# Altium integrated library Linear Technology Power Management Power Control.IntLib: 661 symbols (part 40 of 43)
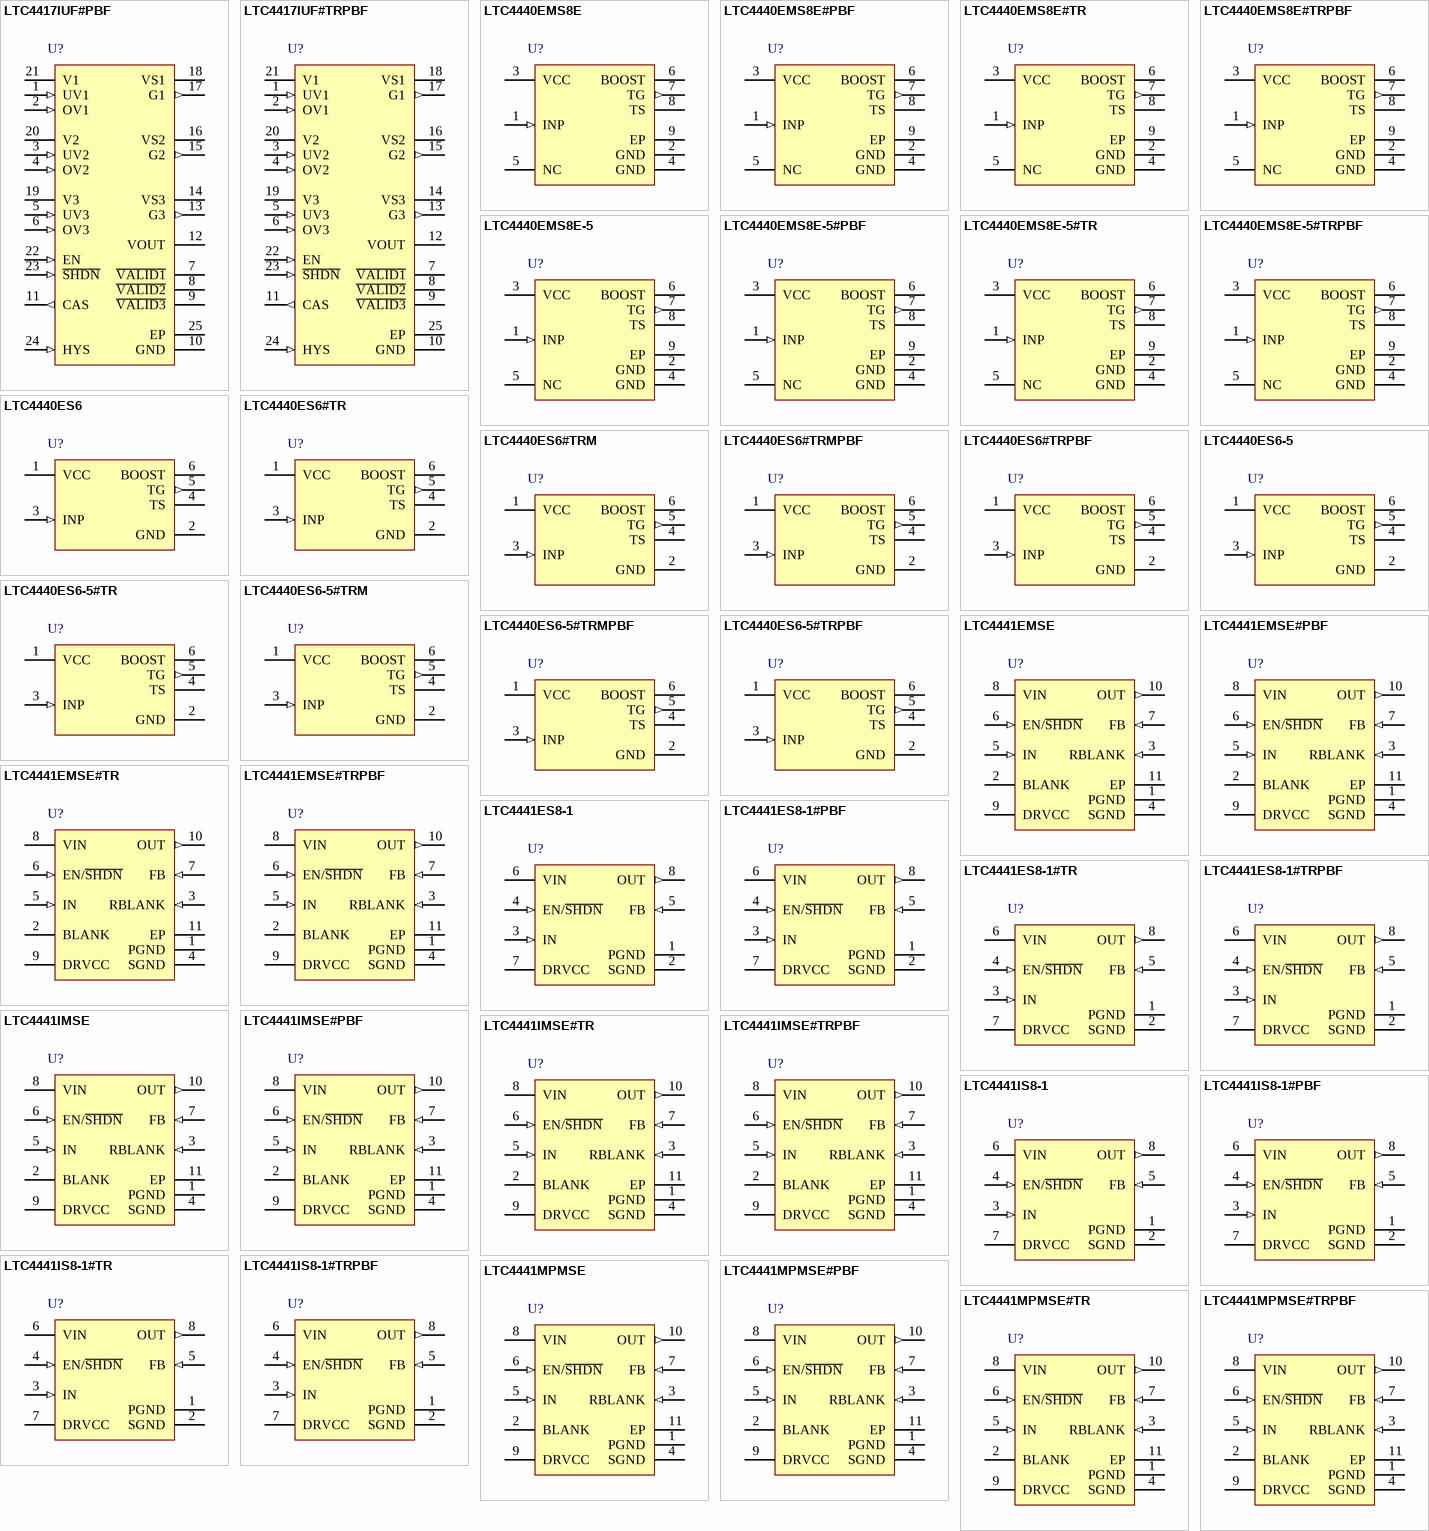
[diagram p58: symbols LTC4417IUF#PBF to LTC4441MPMSE#TRPBF]

## LTC4440EMS8E-5#TR
designator U?
Optimized for Logic Level FETs, 1.85 Ohm Pull-Down, 1.1 A Pull-Up Driver, 80 V Vin MAX, 8-pin SOP (MS8E-8), -40 to 85 degC, Tape and Reel; Manufacturer: Linear Technology; PartNumber: LTC4440EMS8E-5#TR; DatasheetVersion: Rev. A; PackageVersion: Rev. E; PackageReference: MS8E-8; PackageDescription: 8-Pin Plastic MSOP, Exposed Die Pad, Body 3 x 3 mm, Pitch 0.65 mm; Packing: Tape and Reel; RoHS: FALSE; Mounting Technology: Surface Mount; ComponentLink1Description: Manufacturer URL; ComponentLink1URL: http://www.linear.com/; ComponentLink2Description: Datasheet; ComponentLink2URL: http://cds.linear.com/docs/en/datasheet/44405fa.pdf; ComponentLink3Description: Package Specification; ComponentLink3URL: http://cds.linear.com/docs/en/datasheet/4070fc.pdf
footprint LT-MS8E-8-2060X1830TP_N (SOP, 8-Leads, Body 3.1x3.1mm, Pitch 0.65mm, Thermal Pad 2.162x1.932mm, IPC Medium Density)
footprint LT-MS8E-8-2060X1830TP_L (SOP, 8-Leads, Body 3.1x3.1mm, Pitch 0.65mm, Thermal Pad 2.162x1.932mm, IPC High Density)
footprint LT-MS8E-8-2060X1830TP_M (SOP, 8-Leads, Body 3.1x3.1mm, Pitch 0.65mm, Thermal Pad 2.162x1.932mm, IPC Low Density)
pins: 1 INP (in) "Input Signal. TTL/CMOS compatible input referenced to GND (Pin 2).", 2 GND (power) "Chip Ground.", 3 VCC (power) "Chip Supply. This pin powers the internal low side circuitry. A low ESR ceramic bypass capacitor should be tied between this pin and the GND pin (Pin 2).", 4 GND (power) "Chip Ground.", 5 NC "No Connect. No connection required. For convenience, this pin may be tied to Pin 6 (BOOST) on the application board.", 6 BOOST "High Side Bootstrapped Supply. An external capacitor should be tied between this pin and TS (Pin 8). Normally, a bootstrap diode is connected between VCC (Pin 3) and this pin. Voltage swing at this pin is from VCC - VD to (See Datasheet)", 7 TG (out) "High Current Gate Driver Output (Top Gate). This pin swings between TS and BOOST.", 8 TS, 9 EP (power) "Ground. Must be electrically connected to Pins 2 and 4 and soldered to PCB ground for optimum thermal performance."

## LTC4440EMS8E-5#TRPBF
designator U?
Optimized for Logic Level FETs, 1.85 Ohm Pull-Down, 1.1 A Pull-Up Driver, 80 V Vin MAX, 8-pin SOP (MS8E-8), -40 to 85 degC, Pb-Free, Tape and Reel; Manufacturer: Linear Technology; PartNumber: LTC4440EMS8E-5#TRPBF; DatasheetVersion: Rev. A; PackageVersion: Rev. E; PackageReference: MS8E-8; PackageDescription: 8-Pin Plastic MSOP, Exposed Die Pad, Body 3 x 3 mm, Pitch 0.65 mm; Supplier 1: Digi-Key; Supplier Part Number 1: LTC4440EMS8E-5#TRPBF-ND; Supplier 2: Newark; Supplier Part Number 2: 56M9552; Packing: Tape and Reel; RoHS: TRUE; Mounting Technology: Surface Mount; ComponentLink1Description: Manufacturer URL; ComponentLink1URL: http://www.linear.com/; ComponentLink2Description: Datasheet; ComponentLink2URL: http://cds.linear.com/docs/en/datasheet/44405fa.pdf; ComponentLink3Description: Package Specification; ComponentLink3URL: http://cds.linear.com/docs/en/datasheet/4070fc.pdf
footprint LT-MS8E-8-2060X1830TP_N (SOP, 8-Leads, Body 3.1x3.1mm, Pitch 0.65mm, Thermal Pad 2.162x1.932mm, IPC Medium Density)
footprint LT-MS8E-8-2060X1830TP_L (SOP, 8-Leads, Body 3.1x3.1mm, Pitch 0.65mm, Thermal Pad 2.162x1.932mm, IPC High Density)
footprint LT-MS8E-8-2060X1830TP_M (SOP, 8-Leads, Body 3.1x3.1mm, Pitch 0.65mm, Thermal Pad 2.162x1.932mm, IPC Low Density)
pins: 1 INP (in) "Input Signal. TTL/CMOS compatible input referenced to GND (Pin 2).", 2 GND (power) "Chip Ground.", 3 VCC (power) "Chip Supply. This pin powers the internal low side circuitry. A low ESR ceramic bypass capacitor should be tied between this pin and the GND pin (Pin 2).", 4 GND (power) "Chip Ground.", 5 NC "No Connect. No connection required. For convenience, this pin may be tied to Pin 6 (BOOST) on the application board.", 6 BOOST "High Side Bootstrapped Supply. An external capacitor should be tied between this pin and TS (Pin 8). Normally, a bootstrap diode is connected between VCC (Pin 3) and this pin. Voltage swing at this pin is from VCC - VD to (See Datasheet)", 7 TG (out) "High Current Gate Driver Output (Top Gate). This pin swings between TS and BOOST.", 8 TS, 9 EP (power) "Ground. Must be electrically connected to Pins 2 and 4 and soldered to PCB ground for optimum thermal performance."

## LTC4440ES6
designator U?
1.5 Ohm Pull-Down, 2.4 A Pull-Up Driver, 100 V Vin MAX, 6-pin SOT23 (S6-6), -40 to 85 degC; Manufacturer: Linear Technology; PartNumber: LTC4440ES6; PackageVersion: Jun-10; PackageReference: S6-6; PackageDescription: 6-Pin Plastic TSOT-23, Body 2.9 x 1.63 mm, Pitch 0.95 mm; RoHS: FALSE; Mounting Technology: Surface Mount; Code_JEDEC: MO-193; ComponentLink1Description: Manufacturer URL; ComponentLink1URL: http://www.linear.com/; ComponentLink2Description: Datasheet; ComponentLink2URL: http://cds.linear.com/docs/en/datasheet/4440f.pdf; ComponentLink3Description: Package Specification; ComponentLink3URL: http://cds.linear.com/docs/en/packaging/SOT_6_05-08-1636.pdf
footprint LT-S6-6-TSOT-23_N (SOT23, 6-Leads, Body 2.9x1.75mm, Pitch 0.95mm, IPC Medium Density)
footprint LT-S6-6-TSOT-23_L (SOT23, 6-Leads, Body 2.9x1.75mm, Pitch 0.95mm, IPC High Density)
footprint LT-S6-6-TSOT-23_M (SOT23, 6-Leads, Body 2.9x1.75mm, Pitch 0.95mm, IPC Low Density)
pins: 1 VCC (power) "Chip Supply. This pin powers the internal low side circuitry. A low ESR ceramic bypass capacitor should be tied between this pin and the GND pin (Pin 2).", 2 GND (power) "Chip Ground", 3 INP (in) "Input Signal. TTL/CMOS compatible input referenced to GND (Pin 2).", 4 TS "Top (High Side) source connection or GND if used in ground referenced applications.", 5 TG (out) "High Current Gate Driver Output (Top Gate). This pin swings between TS and BOOST", 6 BOOST "High Side Bootstrapped Supply. An external capacitor should be tied between this pin and TS (Pin 4). Normally, a bootstrap diode is connected between VCC (Pin 1) and this pin. Voltage swing at this pin is from VCC - VD to (See Datasheet)"

## LTC4440ES6#TR
designator U?
1.5 Ohm Pull-Down, 2.4 A Pull-Up Driver, 100 V Vin MAX, 6-pin SOT23 (S6-6), -40 to 85 degC, Tape and Reel; Manufacturer: Linear Technology; PartNumber: LTC4440ES6#TR; PackageVersion: Jun-10; PackageReference: S6-6; PackageDescription: 6-Pin Plastic TSOT-23, Body 2.9 x 1.63 mm, Pitch 0.95 mm; Supplier 1: Digi-Key; Supplier Part Number 1: LTC4440ES6#TR-ND; Supplier 2: Newark; Supplier Part Number 2: 56M9560; Packing: Tape and Reel; RoHS: FALSE; Mounting Technology: Surface Mount; Code_JEDEC: MO-193; ComponentLink1Description: Manufacturer URL; ComponentLink1URL: http://www.linear.com/; ComponentLink2Description: Datasheet; ComponentLink2URL: http://cds.linear.com/docs/en/datasheet/4440f.pdf; ComponentLink3Description: Package Specification; ComponentLink3URL: http://cds.linear.com/docs/en/packaging/SOT_6_05-08-1636.pdf
footprint LT-S6-6-TSOT-23_N (SOT23, 6-Leads, Body 2.9x1.75mm, Pitch 0.95mm, IPC Medium Density)
footprint LT-S6-6-TSOT-23_L (SOT23, 6-Leads, Body 2.9x1.75mm, Pitch 0.95mm, IPC High Density)
footprint LT-S6-6-TSOT-23_M (SOT23, 6-Leads, Body 2.9x1.75mm, Pitch 0.95mm, IPC Low Density)
pins: 1 VCC (power) "Chip Supply. This pin powers the internal low side circuitry. A low ESR ceramic bypass capacitor should be tied between this pin and the GND pin (Pin 2).", 2 GND (power) "Chip Ground", 3 INP (in) "Input Signal. TTL/CMOS compatible input referenced to GND (Pin 2).", 4 TS "Top (High Side) source connection or GND if used in ground referenced applications.", 5 TG (out) "High Current Gate Driver Output (Top Gate). This pin swings between TS and BOOST", 6 BOOST "High Side Bootstrapped Supply. An external capacitor should be tied between this pin and TS (Pin 4). Normally, a bootstrap diode is connected between VCC (Pin 1) and this pin. Voltage swing at this pin is from VCC - VD to (See Datasheet)"

## LTC4440ES6#TRM
designator U?
1.5 Ohm Pull-Down, 2.4 A Pull-Up Driver, 100 V Vin MAX, 6-pin SOT23 (S6-6), -40 to 85 degC, Mini Tape and Reel; Manufacturer: Linear Technology; PartNumber: LTC4440ES6#TRM; PackageVersion: Jun-10; PackageReference: S6-6; PackageDescription: 6-Pin Plastic TSOT-23, Body 2.9 x 1.63 mm, Pitch 0.95 mm; Supplier 1: Digi-Key; Supplier Part Number 1: LTC4440ES6#TRMTR-ND; Supplier 2: Digi-Key; Supplier Part Number 2: LTC4440ES6#TRMCT-ND; Packing: Mini Tape and Reel; RoHS: FALSE; Mounting Technology: Surface Mount; Code_JEDEC: MO-193; ComponentLink1Description: Manufacturer URL; ComponentLink1URL: http://www.linear.com/; ComponentLink2Description: Datasheet; ComponentLink2URL: http://cds.linear.com/docs/en/datasheet/4440f.pdf; ComponentLink3Description: Package Specification; ComponentLink3URL: http://cds.linear.com/docs/en/packaging/SOT_6_05-08-1636.pdf
footprint LT-S6-6-TSOT-23_N (SOT23, 6-Leads, Body 2.9x1.75mm, Pitch 0.95mm, IPC Medium Density)
footprint LT-S6-6-TSOT-23_L (SOT23, 6-Leads, Body 2.9x1.75mm, Pitch 0.95mm, IPC High Density)
footprint LT-S6-6-TSOT-23_M (SOT23, 6-Leads, Body 2.9x1.75mm, Pitch 0.95mm, IPC Low Density)
pins: 1 VCC (power) "Chip Supply. This pin powers the internal low side circuitry. A low ESR ceramic bypass capacitor should be tied between this pin and the GND pin (Pin 2).", 2 GND (power) "Chip Ground", 3 INP (in) "Input Signal. TTL/CMOS compatible input referenced to GND (Pin 2).", 4 TS "Top (High Side) source connection or GND if used in ground referenced applications.", 5 TG (out) "High Current Gate Driver Output (Top Gate). This pin swings between TS and BOOST", 6 BOOST "High Side Bootstrapped Supply. An external capacitor should be tied between this pin and TS (Pin 4). Normally, a bootstrap diode is connected between VCC (Pin 1) and this pin. Voltage swing at this pin is from VCC - VD to (See Datasheet)"

## LTC4440ES6#TRMPBF
designator U?
1.5 Ohm Pull-Down, 2.4 A Pull-Up Driver, 100 V Vin MAX, 6-pin SOT23 (S6-6), -40 to 85 degC, Pb-Free, Mini Tape and Reel; Manufacturer: Linear Technology; PartNumber: LTC4440ES6#TRMPBF; PackageVersion: Jun-10; PackageReference: S6-6; PackageDescription: 6-Pin Plastic TSOT-23, Body 2.9 x 1.63 mm, Pitch 0.95 mm; Supplier 1: Digi-Key; Supplier Part Number 1: LTC4440ES6#TRMPBFTR-ND; Supplier 2: Digi-Key; Supplier Part Number 2: LTC4440ES6#TRMPBFCT-ND; Supplier 3: Digi-Key; Supplier Part Number 3: LTC4440ES6#TRMPBFDKR-ND; Supplier 4: Farnell; Supplier Part Number 4: 1663919; Supplier 5: Newark; Supplier Part Number 5: 56M9562; Packing: Mini Tape and Reel; RoHS: TRUE; Mounting Technology: Surface Mount; Code_JEDEC: MO-193; ComponentLink1Description: Manufacturer URL; ComponentLink1URL: http://www.linear.com/; ComponentLink2Description: Datasheet; ComponentLink2URL: http://cds.linear.com/docs/en/datasheet/4440f.pdf; ComponentLink3Description: Package Specification; ComponentLink3URL: http://cds.linear.com/docs/en/packaging/SOT_6_05-08-1636.pdf
footprint LT-S6-6-TSOT-23_N (SOT23, 6-Leads, Body 2.9x1.75mm, Pitch 0.95mm, IPC Medium Density)
footprint LT-S6-6-TSOT-23_L (SOT23, 6-Leads, Body 2.9x1.75mm, Pitch 0.95mm, IPC High Density)
footprint LT-S6-6-TSOT-23_M (SOT23, 6-Leads, Body 2.9x1.75mm, Pitch 0.95mm, IPC Low Density)
pins: 1 VCC (power) "Chip Supply. This pin powers the internal low side circuitry. A low ESR ceramic bypass capacitor should be tied between this pin and the GND pin (Pin 2).", 2 GND (power) "Chip Ground", 3 INP (in) "Input Signal. TTL/CMOS compatible input referenced to GND (Pin 2).", 4 TS "Top (High Side) source connection or GND if used in ground referenced applications.", 5 TG (out) "High Current Gate Driver Output (Top Gate). This pin swings between TS and BOOST", 6 BOOST "High Side Bootstrapped Supply. An external capacitor should be tied between this pin and TS (Pin 4). Normally, a bootstrap diode is connected between VCC (Pin 1) and this pin. Voltage swing at this pin is from VCC - VD to (See Datasheet)"

## LTC4440ES6#TRPBF
designator U?
1.5 Ohm Pull-Down, 2.4 A Pull-Up Driver, 100 V Vin MAX, 6-pin SOT23 (S6-6), -40 to 85 degC, Pb-Free, Tape and Reel; Manufacturer: Linear Technology; PartNumber: LTC4440ES6#TRPBF; PackageVersion: Jun-10; PackageReference: S6-6; PackageDescription: 6-Pin Plastic TSOT-23, Body 2.9 x 1.63 mm, Pitch 0.95 mm; Supplier 1: Digi-Key; Supplier Part Number 1: LTC4440ES6#TRPBF-ND; Supplier 2: Newark; Supplier Part Number 2: 56M9563; Packing: Tape and Reel; RoHS: TRUE; Mounting Technology: Surface Mount; Code_JEDEC: MO-193; ComponentLink1Description: Manufacturer URL; ComponentLink1URL: http://www.linear.com/; ComponentLink2Description: Datasheet; ComponentLink2URL: http://cds.linear.com/docs/en/datasheet/4440f.pdf; ComponentLink3Description: Package Specification; ComponentLink3URL: http://cds.linear.com/docs/en/packaging/SOT_6_05-08-1636.pdf
footprint LT-S6-6-TSOT-23_N (SOT23, 6-Leads, Body 2.9x1.75mm, Pitch 0.95mm, IPC Medium Density)
footprint LT-S6-6-TSOT-23_L (SOT23, 6-Leads, Body 2.9x1.75mm, Pitch 0.95mm, IPC High Density)
footprint LT-S6-6-TSOT-23_M (SOT23, 6-Leads, Body 2.9x1.75mm, Pitch 0.95mm, IPC Low Density)
pins: 1 VCC (power) "Chip Supply. This pin powers the internal low side circuitry. A low ESR ceramic bypass capacitor should be tied between this pin and the GND pin (Pin 2).", 2 GND (power) "Chip Ground", 3 INP (in) "Input Signal. TTL/CMOS compatible input referenced to GND (Pin 2).", 4 TS "Top (High Side) source connection or GND if used in ground referenced applications.", 5 TG (out) "High Current Gate Driver Output (Top Gate). This pin swings between TS and BOOST", 6 BOOST "High Side Bootstrapped Supply. An external capacitor should be tied between this pin and TS (Pin 4). Normally, a bootstrap diode is connected between VCC (Pin 1) and this pin. Voltage swing at this pin is from VCC - VD to (See Datasheet)"

## LTC4440ES6-5
designator U?
Optimized for Logic Level FETs, 1.85 Ohm Pull-Down, 1.1 A Pull-Up Driver, 80 V Vin MAX, 6-pin SOT23 (S6-6), -40 to 85 degC; Manufacturer: Linear Technology; PartNumber: LTC4440ES6-5; DatasheetVersion: Rev. A; PackageVersion: Jun-10; PackageReference: S6-6; PackageDescription: 6-Pin Plastic TSOT-23, Body 2.9 x 1.63 mm, Pitch 0.95 mm; RoHS: FALSE; Mounting Technology: Surface Mount; Code_JEDEC: MO-193; ComponentLink1Description: Manufacturer URL; ComponentLink1URL: http://www.linear.com/; ComponentLink2Description: Datasheet; ComponentLink2URL: http://cds.linear.com/docs/en/datasheet/44405fa.pdf; ComponentLink3Description: Package Specification; ComponentLink3URL: http://cds.linear.com/docs/en/packaging/SOT_6_05-08-1636.pdf
footprint LT-S6-6-TSOT-23_N (SOT23, 6-Leads, Body 2.9x1.75mm, Pitch 0.95mm, IPC Medium Density)
footprint LT-S6-6-TSOT-23_L (SOT23, 6-Leads, Body 2.9x1.75mm, Pitch 0.95mm, IPC High Density)
footprint LT-S6-6-TSOT-23_M (SOT23, 6-Leads, Body 2.9x1.75mm, Pitch 0.95mm, IPC Low Density)
pins: 1 VCC (power) "Chip Supply. This pin powers the internal low side circuitry. A low ESR ceramic bypass capacitor should be tied between this pin and the GND pin (Pin 2).", 2 GND (power) "Chip Ground", 3 INP (in) "Input Signal. TTL/CMOS compatible input referenced to GND (Pin 2).", 4 TS "Top (High Side) source connection or GND if used in ground referenced applications.", 5 TG (out) "High Current Gate Driver Output (Top Gate). This pin swings between TS and BOOST", 6 BOOST "High Side Bootstrapped Supply. An external capacitor should be tied between this pin and TS (Pin 4). Normally, a bootstrap diode is connected between VCC (Pin 1) and this pin. Voltage swing at this pin is from VCC - VD to (See Datasheet)"

## LTC4440ES6-5#TR
designator U?
Optimized for Logic Level FETs, 1.85 Ohm Pull-Down, 1.1 A Pull-Up Driver, 80 V Vin MAX, 6-pin SOT23 (S6-6), -40 to 85 degC, Tape and Reel; Manufacturer: Linear Technology; PartNumber: LTC4440ES6-5#TR; DatasheetVersion: Rev. A; PackageVersion: Jun-10; PackageReference: S6-6; PackageDescription: 6-Pin Plastic TSOT-23, Body 2.9 x 1.63 mm, Pitch 0.95 mm; Packing: Tape and Reel; RoHS: FALSE; Mounting Technology: Surface Mount; Code_JEDEC: MO-193; ComponentLink1Description: Manufacturer URL; ComponentLink1URL: http://www.linear.com/; ComponentLink2Description: Datasheet; ComponentLink2URL: http://cds.linear.com/docs/en/datasheet/44405fa.pdf; ComponentLink3Description: Package Specification; ComponentLink3URL: http://cds.linear.com/docs/en/packaging/SOT_6_05-08-1636.pdf
footprint LT-S6-6-TSOT-23_N (SOT23, 6-Leads, Body 2.9x1.75mm, Pitch 0.95mm, IPC Medium Density)
footprint LT-S6-6-TSOT-23_L (SOT23, 6-Leads, Body 2.9x1.75mm, Pitch 0.95mm, IPC High Density)
footprint LT-S6-6-TSOT-23_M (SOT23, 6-Leads, Body 2.9x1.75mm, Pitch 0.95mm, IPC Low Density)
pins: 1 VCC (power) "Chip Supply. This pin powers the internal low side circuitry. A low ESR ceramic bypass capacitor should be tied between this pin and the GND pin (Pin 2).", 2 GND (power) "Chip Ground", 3 INP (in) "Input Signal. TTL/CMOS compatible input referenced to GND (Pin 2).", 4 TS "Top (High Side) source connection or GND if used in ground referenced applications.", 5 TG (out) "High Current Gate Driver Output (Top Gate). This pin swings between TS and BOOST", 6 BOOST "High Side Bootstrapped Supply. An external capacitor should be tied between this pin and TS (Pin 4). Normally, a bootstrap diode is connected between VCC (Pin 1) and this pin. Voltage swing at this pin is from VCC - VD to (See Datasheet)"

## LTC4440ES6-5#TRM
designator U?
Optimized for Logic Level FETs, 1.85 Ohm Pull-Down, 1.1 A Pull-Up Driver, 80 V Vin MAX, 6-pin SOT23 (S6-6), -40 to 85 degC, Mini Tape and Reel; Manufacturer: Linear Technology; PartNumber: LTC4440ES6-5#TRM; DatasheetVersion: Rev. A; PackageVersion: Jun-10; PackageReference: S6-6; PackageDescription: 6-Pin Plastic TSOT-23, Body 2.9 x 1.63 mm, Pitch 0.95 mm; Packing: Mini Tape and Reel; RoHS: FALSE; Mounting Technology: Surface Mount; Code_JEDEC: MO-193; ComponentLink1Description: Manufacturer URL; ComponentLink1URL: http://www.linear.com/; ComponentLink2Description: Datasheet; ComponentLink2URL: http://cds.linear.com/docs/en/datasheet/44405fa.pdf; ComponentLink3Description: Package Specification; ComponentLink3URL: http://cds.linear.com/docs/en/packaging/SOT_6_05-08-1636.pdf
footprint LT-S6-6-TSOT-23_N (SOT23, 6-Leads, Body 2.9x1.75mm, Pitch 0.95mm, IPC Medium Density)
footprint LT-S6-6-TSOT-23_L (SOT23, 6-Leads, Body 2.9x1.75mm, Pitch 0.95mm, IPC High Density)
footprint LT-S6-6-TSOT-23_M (SOT23, 6-Leads, Body 2.9x1.75mm, Pitch 0.95mm, IPC Low Density)
pins: 1 VCC (power) "Chip Supply. This pin powers the internal low side circuitry. A low ESR ceramic bypass capacitor should be tied between this pin and the GND pin (Pin 2).", 2 GND (power) "Chip Ground", 3 INP (in) "Input Signal. TTL/CMOS compatible input referenced to GND (Pin 2).", 4 TS "Top (High Side) source connection or GND if used in ground referenced applications.", 5 TG (out) "High Current Gate Driver Output (Top Gate). This pin swings between TS and BOOST", 6 BOOST "High Side Bootstrapped Supply. An external capacitor should be tied between this pin and TS (Pin 4). Normally, a bootstrap diode is connected between VCC (Pin 1) and this pin. Voltage swing at this pin is from VCC - VD to (See Datasheet)"

## LTC4440ES6-5#TRMPBF
designator U?
Optimized for Logic Level FETs, 1.85 Ohm Pull-Down, 1.1 A Pull-Up Driver, 80 V Vin MAX, 6-pin SOT23 (S6-6), -40 to 85 degC, Pb-Free, Mini Tape and Reel; Manufacturer: Linear Technology; PartNumber: LTC4440ES6-5#TRMPBF; DatasheetVersion: Rev. A; PackageVersion: Jun-10; PackageReference: S6-6; PackageDescription: 6-Pin Plastic TSOT-23, Body 2.9 x 1.63 mm, Pitch 0.95 mm; Supplier 1: Digi-Key; Supplier Part Number 1: LTC4440ES6-5#TRMPBF-ND; Supplier 2: Newark; Supplier Part Number 2: 56M9558; Packing: Mini Tape and Reel; RoHS: TRUE; Mounting Technology: Surface Mount; Code_JEDEC: MO-193; ComponentLink1Description: Manufacturer URL; ComponentLink1URL: http://www.linear.com/; ComponentLink2Description: Datasheet; ComponentLink2URL: http://cds.linear.com/docs/en/datasheet/44405fa.pdf; ComponentLink3Description: Package Specification; ComponentLink3URL: http://cds.linear.com/docs/en/packaging/SOT_6_05-08-1636.pdf
footprint LT-S6-6-TSOT-23_N (SOT23, 6-Leads, Body 2.9x1.75mm, Pitch 0.95mm, IPC Medium Density)
footprint LT-S6-6-TSOT-23_L (SOT23, 6-Leads, Body 2.9x1.75mm, Pitch 0.95mm, IPC High Density)
footprint LT-S6-6-TSOT-23_M (SOT23, 6-Leads, Body 2.9x1.75mm, Pitch 0.95mm, IPC Low Density)
pins: 1 VCC (power) "Chip Supply. This pin powers the internal low side circuitry. A low ESR ceramic bypass capacitor should be tied between this pin and the GND pin (Pin 2).", 2 GND (power) "Chip Ground", 3 INP (in) "Input Signal. TTL/CMOS compatible input referenced to GND (Pin 2).", 4 TS "Top (High Side) source connection or GND if used in ground referenced applications.", 5 TG (out) "High Current Gate Driver Output (Top Gate). This pin swings between TS and BOOST", 6 BOOST "High Side Bootstrapped Supply. An external capacitor should be tied between this pin and TS (Pin 4). Normally, a bootstrap diode is connected between VCC (Pin 1) and this pin. Voltage swing at this pin is from VCC - VD to (See Datasheet)"

## LTC4440ES6-5#TRPBF
designator U?
Optimized for Logic Level FETs, 1.85 Ohm Pull-Down, 1.1 A Pull-Up Driver, 80 V Vin MAX, 6-pin SOT23 (S6-6), -40 to 85 degC, Pb-Free, Tape and Reel; Manufacturer: Linear Technology; PartNumber: LTC4440ES6-5#TRPBF; DatasheetVersion: Rev. A; PackageVersion: Jun-10; PackageReference: S6-6; PackageDescription: 6-Pin Plastic TSOT-23, Body 2.9 x 1.63 mm, Pitch 0.95 mm; Supplier 1: Digi-Key; Supplier Part Number 1: LTC4440ES6-5#TRPBF-ND; Supplier 2: Newark; Supplier Part Number 2: 56M9559; Packing: Tape and Reel; RoHS: TRUE; Mounting Technology: Surface Mount; Code_JEDEC: MO-193; ComponentLink1Description: Manufacturer URL; ComponentLink1URL: http://www.linear.com/; ComponentLink2Description: Datasheet; ComponentLink2URL: http://cds.linear.com/docs/en/datasheet/44405fa.pdf; ComponentLink3Description: Package Specification; ComponentLink3URL: http://cds.linear.com/docs/en/packaging/SOT_6_05-08-1636.pdf
footprint LT-S6-6-TSOT-23_N (SOT23, 6-Leads, Body 2.9x1.75mm, Pitch 0.95mm, IPC Medium Density)
footprint LT-S6-6-TSOT-23_L (SOT23, 6-Leads, Body 2.9x1.75mm, Pitch 0.95mm, IPC High Density)
footprint LT-S6-6-TSOT-23_M (SOT23, 6-Leads, Body 2.9x1.75mm, Pitch 0.95mm, IPC Low Density)
pins: 1 VCC (power) "Chip Supply. This pin powers the internal low side circuitry. A low ESR ceramic bypass capacitor should be tied between this pin and the GND pin (Pin 2).", 2 GND (power) "Chip Ground", 3 INP (in) "Input Signal. TTL/CMOS compatible input referenced to GND (Pin 2).", 4 TS "Top (High Side) source connection or GND if used in ground referenced applications.", 5 TG (out) "High Current Gate Driver Output (Top Gate). This pin swings between TS and BOOST", 6 BOOST "High Side Bootstrapped Supply. An external capacitor should be tied between this pin and TS (Pin 4). Normally, a bootstrap diode is connected between VCC (Pin 1) and this pin. Voltage swing at this pin is from VCC - VD to (See Datasheet)"

## LTC4441EMSE
designator U?
6 A Peak Output Current, Adjustable Blanking Time for MOSFETs Current Sense Signal, 25 V Vin MAX, 10-pin SOP (MSE-10-EDP), -40 to 125 degC; Manufacturer: Linear Technology; PartNumber: LTC4441EMSE; DatasheetVersion: Rev. A; PackageVersion: Rev. I, 05/2013; PackageReference: MSE-10; PackageDescription: 10-Pin Plastic MSOP, Exposed Die Pad, Body 3 x 3 mm, Pitch 0.5 mm; RoHS: FALSE; Mounting Technology: Surface Mount; ComponentLink1Description: Manufacturer URL; ComponentLink1URL: http://www.linear.com/; ComponentLink2Description: Datasheet; ComponentLink2URL: http://cds.linear.com/docs/en/datasheet/44411fa.pdf; ComponentLink3Description: Package Specification; ComponentLink3URL: http://cds.linear.com/docs/en/packaging/05081664_I_MSE.pdf
footprint LT-MSE-10-EDP_N (SOP, 10-Leads, Body 3.1x3.1mm, Pitch 0.5mm, Thermal Pad 1.88x1.68mm, IPC Medium Density)
footprint LT-MSE-10-EDP_L (SOP, 10-Leads, Body 3.1x3.1mm, Pitch 0.5mm, Thermal Pad 1.88x1.68mm, IPC High Density)
footprint LT-MSE-10-EDP_M (SOP, 10-Leads, Body 3.1x3.1mm, Pitch 0.5mm, Thermal Pad 1.88x1.68mm, IPC Low Density)
pins: 1 PGND (power) "Driver Ground. Connect the DRVCC bypass capacitor directly to this pin, as close as possible to the IC. In addition, connect the PGND and SGND pins together close to the IC, and then connect this node to the source of the (See Datasheet)", 2 BLANK (hiz) "Current Sense Blanking Output. Use this pin to assert a blanking time in the power MOSFET’s source current sense signal. The LTC4441 pulls this opendrain output to SGND if the driver output is low. The output becomes hig(See Datasheet)", 3 RBLANK (in) "Blanking Time Adjust Input. Connect a resistor from this pin to SGND to set the blanking time. A small resistor value gives a shorter delay. Leave this pin floating if the BLANK pin is not used.", 4 SGND (power) "Signal Ground. Ground return for the DRVCC regulator and low power circuitry.", 5 IN (in) "Driver Logic Input. This is the noninverting driver input under normal operating conditions.", 6 EN/~{SHDN} (in) "Enable/S\h\u\t\d\o\w\n\ Input. Pulling this pin above 1.21V allows the driver to switch. Pulling this pin below 1.09V forces the driver output to go low. Pulling this pin below 0.45V forces the LTC4441/LTC4441-1 into (See Datasheet)", 7 FB (in) "DRVCC Regulator Feedback Input. Connect this pin to the center tap of an external resistive divider between DRVCC and SGND to program the DRVCC regulator output voltage. To ensure loop stability, use the value of 330kohm for (See Datasheet)", 8 VIN (power) "Main Supply Input. This pin powers the DRVCC linear regulator. Bypass this pin to SGND with a 1uF ceramic, tantalum or other low ESR capacitor in close proximity to the LTC4441/LTC4441-1.", 9 DRVCC (power) "Linear Regulator Output. This output pin powers the driver and the control circuitry. Bypass this pin to PGND using a 10uF ceramic, low ESR (X5R or X7R) capacitor in close proximity to the LTC4441/LTC4441-1.", 10 OUT (out) "Driver Output.", 11 EP (power) "Ground. The exposed pad must be soldered to the PCB ground."

## LTC4441EMSE#PBF
designator U?
6 A Peak Output Current, Adjustable Blanking Time for MOSFETs Current Sense Signal, 25 V Vin MAX, 10-pin SOP (MSE-10-EDP), -40 to 125 degC, Pb-Free; Manufacturer: Linear Technology; PartNumber: LTC4441EMSE#PBF; DatasheetVersion: Rev. A; PackageVersion: Rev. I, 05/2013; PackageReference: MSE-10; PackageDescription: 10-Pin Plastic MSOP, Exposed Die Pad, Body 3 x 3 mm, Pitch 0.5 mm; Supplier 1: Digi-Key; Supplier Part Number 1: LTC4441EMSE#PBF-ND; Supplier 2: Newark; Supplier Part Number 2: 56M9565; RoHS: TRUE; Mounting Technology: Surface Mount; ComponentLink1Description: Manufacturer URL; ComponentLink1URL: http://www.linear.com/; ComponentLink2Description: Datasheet; ComponentLink2URL: http://cds.linear.com/docs/en/datasheet/44411fa.pdf; ComponentLink3Description: Package Specification; ComponentLink3URL: http://cds.linear.com/docs/en/packaging/05081664_I_MSE.pdf
footprint LT-MSE-10-EDP_N (SOP, 10-Leads, Body 3.1x3.1mm, Pitch 0.5mm, Thermal Pad 1.88x1.68mm, IPC Medium Density)
footprint LT-MSE-10-EDP_L (SOP, 10-Leads, Body 3.1x3.1mm, Pitch 0.5mm, Thermal Pad 1.88x1.68mm, IPC High Density)
footprint LT-MSE-10-EDP_M (SOP, 10-Leads, Body 3.1x3.1mm, Pitch 0.5mm, Thermal Pad 1.88x1.68mm, IPC Low Density)
pins: 1 PGND (power) "Driver Ground. Connect the DRVCC bypass capacitor directly to this pin, as close as possible to the IC. In addition, connect the PGND and SGND pins together close to the IC, and then connect this node to the source of the (See Datasheet)", 2 BLANK (hiz) "Current Sense Blanking Output. Use this pin to assert a blanking time in the power MOSFET’s source current sense signal. The LTC4441 pulls this opendrain output to SGND if the driver output is low. The output becomes hig(See Datasheet)", 3 RBLANK (in) "Blanking Time Adjust Input. Connect a resistor from this pin to SGND to set the blanking time. A small resistor value gives a shorter delay. Leave this pin floating if the BLANK pin is not used.", 4 SGND (power) "Signal Ground. Ground return for the DRVCC regulator and low power circuitry.", 5 IN (in) "Driver Logic Input. This is the noninverting driver input under normal operating conditions.", 6 EN/~{SHDN} (in) "Enable/S\h\u\t\d\o\w\n\ Input. Pulling this pin above 1.21V allows the driver to switch. Pulling this pin below 1.09V forces the driver output to go low. Pulling this pin below 0.45V forces the LTC4441/LTC4441-1 into (See Datasheet)", 7 FB (in) "DRVCC Regulator Feedback Input. Connect this pin to the center tap of an external resistive divider between DRVCC and SGND to program the DRVCC regulator output voltage. To ensure loop stability, use the value of 330kohm for (See Datasheet)", 8 VIN (power) "Main Supply Input. This pin powers the DRVCC linear regulator. Bypass this pin to SGND with a 1uF ceramic, tantalum or other low ESR capacitor in close proximity to the LTC4441/LTC4441-1.", 9 DRVCC (power) "Linear Regulator Output. This output pin powers the driver and the control circuitry. Bypass this pin to PGND using a 10uF ceramic, low ESR (X5R or X7R) capacitor in close proximity to the LTC4441/LTC4441-1.", 10 OUT (out) "Driver Output.", 11 EP (power) "Ground. The exposed pad must be soldered to the PCB ground."

## LTC4441EMSE#TR
designator U?
6 A Peak Output Current, Adjustable Blanking Time for MOSFETs Current Sense Signal, 25 V Vin MAX, 10-pin SOP (MSE-10-EDP), -40 to 125 degC, Tape and Reel; Manufacturer: Linear Technology; PartNumber: LTC4441EMSE#TR; DatasheetVersion: Rev. A; PackageVersion: Rev. I, 05/2013; PackageReference: MSE-10; PackageDescription: 10-Pin Plastic MSOP, Exposed Die Pad, Body 3 x 3 mm, Pitch 0.5 mm; Packing: Tape and Reel; RoHS: FALSE; Mounting Technology: Surface Mount; ComponentLink1Description: Manufacturer URL; ComponentLink1URL: http://www.linear.com/; ComponentLink2Description: Datasheet; ComponentLink2URL: http://cds.linear.com/docs/en/datasheet/44411fa.pdf; ComponentLink3Description: Package Specification; ComponentLink3URL: http://cds.linear.com/docs/en/packaging/05081664_I_MSE.pdf
footprint LT-MSE-10-EDP_N (SOP, 10-Leads, Body 3.1x3.1mm, Pitch 0.5mm, Thermal Pad 1.88x1.68mm, IPC Medium Density)
footprint LT-MSE-10-EDP_L (SOP, 10-Leads, Body 3.1x3.1mm, Pitch 0.5mm, Thermal Pad 1.88x1.68mm, IPC High Density)
footprint LT-MSE-10-EDP_M (SOP, 10-Leads, Body 3.1x3.1mm, Pitch 0.5mm, Thermal Pad 1.88x1.68mm, IPC Low Density)
pins: 1 PGND (power) "Driver Ground. Connect the DRVCC bypass capacitor directly to this pin, as close as possible to the IC. In addition, connect the PGND and SGND pins together close to the IC, and then connect this node to the source of the (See Datasheet)", 2 BLANK (hiz) "Current Sense Blanking Output. Use this pin to assert a blanking time in the power MOSFET’s source current sense signal. The LTC4441 pulls this opendrain output to SGND if the driver output is low. The output becomes hig(See Datasheet)", 3 RBLANK (in) "Blanking Time Adjust Input. Connect a resistor from this pin to SGND to set the blanking time. A small resistor value gives a shorter delay. Leave this pin floating if the BLANK pin is not used.", 4 SGND (power) "Signal Ground. Ground return for the DRVCC regulator and low power circuitry.", 5 IN (in) "Driver Logic Input. This is the noninverting driver input under normal operating conditions.", 6 EN/~{SHDN} (in) "Enable/S\h\u\t\d\o\w\n\ Input. Pulling this pin above 1.21V allows the driver to switch. Pulling this pin below 1.09V forces the driver output to go low. Pulling this pin below 0.45V forces the LTC4441/LTC4441-1 into (See Datasheet)", 7 FB (in) "DRVCC Regulator Feedback Input. Connect this pin to the center tap of an external resistive divider between DRVCC and SGND to program the DRVCC regulator output voltage. To ensure loop stability, use the value of 330kohm for (See Datasheet)", 8 VIN (power) "Main Supply Input. This pin powers the DRVCC linear regulator. Bypass this pin to SGND with a 1uF ceramic, tantalum or other low ESR capacitor in close proximity to the LTC4441/LTC4441-1.", 9 DRVCC (power) "Linear Regulator Output. This output pin powers the driver and the control circuitry. Bypass this pin to PGND using a 10uF ceramic, low ESR (X5R or X7R) capacitor in close proximity to the LTC4441/LTC4441-1.", 10 OUT (out) "Driver Output.", 11 EP (power) "Ground. The exposed pad must be soldered to the PCB ground."

## LTC4441EMSE#TRPBF
designator U?
6 A Peak Output Current, Adjustable Blanking Time for MOSFETs Current Sense Signal, 25 V Vin MAX, 10-pin SOP (MSE-10-EDP), -40 to 125 degC, Pb-Free, Tape and Reel; Manufacturer: Linear Technology; PartNumber: LTC4441EMSE#TRPBF; DatasheetVersion: Rev. A; PackageVersion: Rev. I, 05/2013; PackageReference: MSE-10; PackageDescription: 10-Pin Plastic MSOP, Exposed Die Pad, Body 3 x 3 mm, Pitch 0.5 mm; Supplier 1: Digi-Key; Supplier Part Number 1: LTC4441EMSE#TRPBF-ND; Packing: Tape and Reel; RoHS: TRUE; Mounting Technology: Surface Mount; ComponentLink1Description: Manufacturer URL; ComponentLink1URL: http://www.linear.com/; ComponentLink2Description: Datasheet; ComponentLink2URL: http://cds.linear.com/docs/en/datasheet/44411fa.pdf; ComponentLink3Description: Package Specification; ComponentLink3URL: http://cds.linear.com/docs/en/packaging/05081664_I_MSE.pdf
footprint LT-MSE-10-EDP_N (SOP, 10-Leads, Body 3.1x3.1mm, Pitch 0.5mm, Thermal Pad 1.88x1.68mm, IPC Medium Density)
footprint LT-MSE-10-EDP_L (SOP, 10-Leads, Body 3.1x3.1mm, Pitch 0.5mm, Thermal Pad 1.88x1.68mm, IPC High Density)
footprint LT-MSE-10-EDP_M (SOP, 10-Leads, Body 3.1x3.1mm, Pitch 0.5mm, Thermal Pad 1.88x1.68mm, IPC Low Density)
pins: 1 PGND (power) "Driver Ground. Connect the DRVCC bypass capacitor directly to this pin, as close as possible to the IC. In addition, connect the PGND and SGND pins together close to the IC, and then connect this node to the source of the (See Datasheet)", 2 BLANK (hiz) "Current Sense Blanking Output. Use this pin to assert a blanking time in the power MOSFET’s source current sense signal. The LTC4441 pulls this opendrain output to SGND if the driver output is low. The output becomes hig(See Datasheet)", 3 RBLANK (in) "Blanking Time Adjust Input. Connect a resistor from this pin to SGND to set the blanking time. A small resistor value gives a shorter delay. Leave this pin floating if the BLANK pin is not used.", 4 SGND (power) "Signal Ground. Ground return for the DRVCC regulator and low power circuitry.", 5 IN (in) "Driver Logic Input. This is the noninverting driver input under normal operating conditions.", 6 EN/~{SHDN} (in) "Enable/S\h\u\t\d\o\w\n\ Input. Pulling this pin above 1.21V allows the driver to switch. Pulling this pin below 1.09V forces the driver output to go low. Pulling this pin below 0.45V forces the LTC4441/LTC4441-1 into (See Datasheet)", 7 FB (in) "DRVCC Regulator Feedback Input. Connect this pin to the center tap of an external resistive divider between DRVCC and SGND to program the DRVCC regulator output voltage. To ensure loop stability, use the value of 330kohm for (See Datasheet)", 8 VIN (power) "Main Supply Input. This pin powers the DRVCC linear regulator. Bypass this pin to SGND with a 1uF ceramic, tantalum or other low ESR capacitor in close proximity to the LTC4441/LTC4441-1.", 9 DRVCC (power) "Linear Regulator Output. This output pin powers the driver and the control circuitry. Bypass this pin to PGND using a 10uF ceramic, low ESR (X5R or X7R) capacitor in close proximity to the LTC4441/LTC4441-1.", 10 OUT (out) "Driver Output.", 11 EP (power) "Ground. The exposed pad must be soldered to the PCB ground."

## LTC4441ES8-1
designator U?
6 A Peak Output Current, 25 V Vin MAX, 8-pin SOIC (S8-8), -40 to 125 degC; Manufacturer: Linear Technology; PartNumber: LTC4441ES8-1; DatasheetVersion: Rev. A; PackageVersion: Rev. G, 03/2012; PackageReference: S8-8; PackageDescription: 8-Pin Plastic Small Outline (Narrow .150 Inch), Body 4.9 x 3.9 mm, Pitch 1.27 mm; RoHS: FALSE; Mounting Technology: Surface Mount; ComponentLink1Description: Manufacturer URL; ComponentLink1URL: http://www.linear.com/; ComponentLink2Description: Datasheet; ComponentLink2URL: http://cds.linear.com/docs/en/datasheet/44411fa.pdf; ComponentLink3Description: Package Specification; ComponentLink3URL: http://cds.linear.com/docs/en/packaging/05081610_G_SO8.pdf
footprint LT-S8-8_N (SOIC, 8-Leads, Body 5x4mm, Pitch 1.27mm, IPC Medium Density)
footprint LT-S8-8_L (SOIC, 8-Leads, Body 5x4mm, Pitch 1.27mm, IPC High Density)
footprint LT-S8-8_M (SOIC, 8-Leads, Body 5x4mm, Pitch 1.27mm, IPC Low Density)
pins: 1 PGND (power) "Driver Ground. Connect the DRVCC bypass capacitor directly to this pin, as close as possible to the IC. In addition, connect the PGND and SGND pins together close to the IC, and then connect this node to the source of the (See Datasheet)", 2 SGND (power) "Signal Ground. Ground return for the DRVCC regulator and low power circuitry.", 3 IN (in) "Driver Logic Input. This is the noninverting driver input under normal operating conditions.", 4 EN/~{SHDN} (in) "Enable/S\h\u\t\d\o\w\n\ Input. Pulling this pin above 1.21V allows the driver to switch. Pulling this pin below 1.09V forces the driver output to go low. Pulling this pin below 0.45V forces the LTC4441/LTC4441-1 into (See Datasheet)", 5 FB (in) "DRVCC Regulator Feedback Input. Connect this pin to the center tap of an external resistive divider between DRVCC and SGND to program the DRVCC regulator output voltage. To ensure loop stability, use the value of 330kohm for (See Datasheet)", 6 VIN (power) "Main Supply Input. This pin powers the DRVCC linear regulator. Bypass this pin to SGND with a 1uF ceramic, tantalum or other low ESR capacitor in close proximity to the LTC4441/LTC4441-1.", 7 DRVCC (power) "Linear Regulator Output. This output pin powers the driver and the control circuitry. Bypass this pin to PGND using a 10uF ceramic, low ESR (X5R or X7R) capacitor in close proximity to the LTC4441/LTC4441-1.", 8 OUT (out) "Driver Output."

## LTC4441ES8-1#PBF
designator U?
6 A Peak Output Current, 25 V Vin MAX, 8-pin SOIC (S8-8), -40 to 125 degC, Pb-Free; Manufacturer: Linear Technology; PartNumber: LTC4441ES8-1#PBF; DatasheetVersion: Rev. A; PackageVersion: Rev. G, 03/2012; PackageReference: S8-8; PackageDescription: 8-Pin Plastic Small Outline (Narrow .150 Inch), Body 4.9 x 3.9 mm, Pitch 1.27 mm; Supplier 1: Digi-Key; Supplier Part Number 1: LTC4441ES8-1#PBF-ND; RoHS: TRUE; Mounting Technology: Surface Mount; ComponentLink1Description: Manufacturer URL; ComponentLink1URL: http://www.linear.com/; ComponentLink2Description: Datasheet; ComponentLink2URL: http://cds.linear.com/docs/en/datasheet/44411fa.pdf; ComponentLink3Description: Package Specification; ComponentLink3URL: http://cds.linear.com/docs/en/packaging/05081610_G_SO8.pdf
footprint LT-S8-8_N (SOIC, 8-Leads, Body 5x4mm, Pitch 1.27mm, IPC Medium Density)
footprint LT-S8-8_L (SOIC, 8-Leads, Body 5x4mm, Pitch 1.27mm, IPC High Density)
footprint LT-S8-8_M (SOIC, 8-Leads, Body 5x4mm, Pitch 1.27mm, IPC Low Density)
pins: 1 PGND (power) "Driver Ground. Connect the DRVCC bypass capacitor directly to this pin, as close as possible to the IC. In addition, connect the PGND and SGND pins together close to the IC, and then connect this node to the source of the (See Datasheet)", 2 SGND (power) "Signal Ground. Ground return for the DRVCC regulator and low power circuitry.", 3 IN (in) "Driver Logic Input. This is the noninverting driver input under normal operating conditions.", 4 EN/~{SHDN} (in) "Enable/S\h\u\t\d\o\w\n\ Input. Pulling this pin above 1.21V allows the driver to switch. Pulling this pin below 1.09V forces the driver output to go low. Pulling this pin below 0.45V forces the LTC4441/LTC4441-1 into (See Datasheet)", 5 FB (in) "DRVCC Regulator Feedback Input. Connect this pin to the center tap of an external resistive divider between DRVCC and SGND to program the DRVCC regulator output voltage. To ensure loop stability, use the value of 330kohm for (See Datasheet)", 6 VIN (power) "Main Supply Input. This pin powers the DRVCC linear regulator. Bypass this pin to SGND with a 1uF ceramic, tantalum or other low ESR capacitor in close proximity to the LTC4441/LTC4441-1.", 7 DRVCC (power) "Linear Regulator Output. This output pin powers the driver and the control circuitry. Bypass this pin to PGND using a 10uF ceramic, low ESR (X5R or X7R) capacitor in close proximity to the LTC4441/LTC4441-1.", 8 OUT (out) "Driver Output."

## LTC4441ES8-1#TR
designator U?
6 A Peak Output Current, 25 V Vin MAX, 8-pin SOIC (S8-8), -40 to 125 degC, Tape and Reel; Manufacturer: Linear Technology; PartNumber: LTC4441ES8-1#TR; DatasheetVersion: Rev. A; PackageVersion: Rev. G, 03/2012; PackageReference: S8-8; PackageDescription: 8-Pin Plastic Small Outline (Narrow .150 Inch), Body 4.9 x 3.9 mm, Pitch 1.27 mm; Packing: Tape and Reel; RoHS: FALSE; Mounting Technology: Surface Mount; ComponentLink1Description: Manufacturer URL; ComponentLink1URL: http://www.linear.com/; ComponentLink2Description: Datasheet; ComponentLink2URL: http://cds.linear.com/docs/en/datasheet/44411fa.pdf; ComponentLink3Description: Package Specification; ComponentLink3URL: http://cds.linear.com/docs/en/packaging/05081610_G_SO8.pdf
footprint LT-S8-8_N (SOIC, 8-Leads, Body 5x4mm, Pitch 1.27mm, IPC Medium Density)
footprint LT-S8-8_L (SOIC, 8-Leads, Body 5x4mm, Pitch 1.27mm, IPC High Density)
footprint LT-S8-8_M (SOIC, 8-Leads, Body 5x4mm, Pitch 1.27mm, IPC Low Density)
pins: 1 PGND (power) "Driver Ground. Connect the DRVCC bypass capacitor directly to this pin, as close as possible to the IC. In addition, connect the PGND and SGND pins together close to the IC, and then connect this node to the source of the (See Datasheet)", 2 SGND (power) "Signal Ground. Ground return for the DRVCC regulator and low power circuitry.", 3 IN (in) "Driver Logic Input. This is the noninverting driver input under normal operating conditions.", 4 EN/~{SHDN} (in) "Enable/S\h\u\t\d\o\w\n\ Input. Pulling this pin above 1.21V allows the driver to switch. Pulling this pin below 1.09V forces the driver output to go low. Pulling this pin below 0.45V forces the LTC4441/LTC4441-1 into (See Datasheet)", 5 FB (in) "DRVCC Regulator Feedback Input. Connect this pin to the center tap of an external resistive divider between DRVCC and SGND to program the DRVCC regulator output voltage. To ensure loop stability, use the value of 330kohm for (See Datasheet)", 6 VIN (power) "Main Supply Input. This pin powers the DRVCC linear regulator. Bypass this pin to SGND with a 1uF ceramic, tantalum or other low ESR capacitor in close proximity to the LTC4441/LTC4441-1.", 7 DRVCC (power) "Linear Regulator Output. This output pin powers the driver and the control circuitry. Bypass this pin to PGND using a 10uF ceramic, low ESR (X5R or X7R) capacitor in close proximity to the LTC4441/LTC4441-1.", 8 OUT (out) "Driver Output."

## LTC4441ES8-1#TRPBF
designator U?
6 A Peak Output Current, 25 V Vin MAX, 8-pin SOIC (S8-8), -40 to 125 degC, Pb-Free, Tape and Reel; Manufacturer: Linear Technology; PartNumber: LTC4441ES8-1#TRPBF; DatasheetVersion: Rev. A; PackageVersion: Rev. G, 03/2012; PackageReference: S8-8; PackageDescription: 8-Pin Plastic Small Outline (Narrow .150 Inch), Body 4.9 x 3.9 mm, Pitch 1.27 mm; Supplier 1: Digi-Key; Supplier Part Number 1: LTC4441ES8-1#TRPBF-ND; Packing: Tape and Reel; RoHS: TRUE; Mounting Technology: Surface Mount; ComponentLink1Description: Manufacturer URL; ComponentLink1URL: http://www.linear.com/; ComponentLink2Description: Datasheet; ComponentLink2URL: http://cds.linear.com/docs/en/datasheet/44411fa.pdf; ComponentLink3Description: Package Specification; ComponentLink3URL: http://cds.linear.com/docs/en/packaging/05081610_G_SO8.pdf
footprint LT-S8-8_N (SOIC, 8-Leads, Body 5x4mm, Pitch 1.27mm, IPC Medium Density)
footprint LT-S8-8_L (SOIC, 8-Leads, Body 5x4mm, Pitch 1.27mm, IPC High Density)
footprint LT-S8-8_M (SOIC, 8-Leads, Body 5x4mm, Pitch 1.27mm, IPC Low Density)
pins: 1 PGND (power) "Driver Ground. Connect the DRVCC bypass capacitor directly to this pin, as close as possible to the IC. In addition, connect the PGND and SGND pins together close to the IC, and then connect this node to the source of the (See Datasheet)", 2 SGND (power) "Signal Ground. Ground return for the DRVCC regulator and low power circuitry.", 3 IN (in) "Driver Logic Input. This is the noninverting driver input under normal operating conditions.", 4 EN/~{SHDN} (in) "Enable/S\h\u\t\d\o\w\n\ Input. Pulling this pin above 1.21V allows the driver to switch. Pulling this pin below 1.09V forces the driver output to go low. Pulling this pin below 0.45V forces the LTC4441/LTC4441-1 into (See Datasheet)", 5 FB (in) "DRVCC Regulator Feedback Input. Connect this pin to the center tap of an external resistive divider between DRVCC and SGND to program the DRVCC regulator output voltage. To ensure loop stability, use the value of 330kohm for (See Datasheet)", 6 VIN (power) "Main Supply Input. This pin powers the DRVCC linear regulator. Bypass this pin to SGND with a 1uF ceramic, tantalum or other low ESR capacitor in close proximity to the LTC4441/LTC4441-1.", 7 DRVCC (power) "Linear Regulator Output. This output pin powers the driver and the control circuitry. Bypass this pin to PGND using a 10uF ceramic, low ESR (X5R or X7R) capacitor in close proximity to the LTC4441/LTC4441-1.", 8 OUT (out) "Driver Output."

## LTC4441IMSE
designator U?
6 A Peak Output Current, Adjustable Blanking Time for MOSFETs Current Sense Signal, 25 V Vin MAX, 10-pin SOP (MSE-10-EDP), -40 to 125 degC; Manufacturer: Linear Technology; PartNumber: LTC4441IMSE; DatasheetVersion: Rev. A; PackageVersion: Rev. I, 05/2013; PackageReference: MSE-10; PackageDescription: 10-Pin Plastic MSOP, Exposed Die Pad, Body 3 x 3 mm, Pitch 0.5 mm; RoHS: FALSE; Mounting Technology: Surface Mount; ComponentLink1Description: Manufacturer URL; ComponentLink1URL: http://www.linear.com/; ComponentLink2Description: Datasheet; ComponentLink2URL: http://cds.linear.com/docs/en/datasheet/44411fa.pdf; ComponentLink3Description: Package Specification; ComponentLink3URL: http://cds.linear.com/docs/en/packaging/05081664_I_MSE.pdf
footprint LT-MSE-10-EDP_N (SOP, 10-Leads, Body 3.1x3.1mm, Pitch 0.5mm, Thermal Pad 1.88x1.68mm, IPC Medium Density)
footprint LT-MSE-10-EDP_L (SOP, 10-Leads, Body 3.1x3.1mm, Pitch 0.5mm, Thermal Pad 1.88x1.68mm, IPC High Density)
footprint LT-MSE-10-EDP_M (SOP, 10-Leads, Body 3.1x3.1mm, Pitch 0.5mm, Thermal Pad 1.88x1.68mm, IPC Low Density)
pins: 1 PGND (power) "Driver Ground. Connect the DRVCC bypass capacitor directly to this pin, as close as possible to the IC. In addition, connect the PGND and SGND pins together close to the IC, and then connect this node to the source of the (See Datasheet)", 2 BLANK (hiz) "Current Sense Blanking Output. Use this pin to assert a blanking time in the power MOSFET’s source current sense signal. The LTC4441 pulls this opendrain output to SGND if the driver output is low. The output becomes hig(See Datasheet)", 3 RBLANK (in) "Blanking Time Adjust Input. Connect a resistor from this pin to SGND to set the blanking time. A small resistor value gives a shorter delay. Leave this pin floating if the BLANK pin is not used.", 4 SGND (power) "Signal Ground. Ground return for the DRVCC regulator and low power circuitry.", 5 IN (in) "Driver Logic Input. This is the noninverting driver input under normal operating conditions.", 6 EN/~{SHDN} (in) "Enable/S\h\u\t\d\o\w\n\ Input. Pulling this pin above 1.21V allows the driver to switch. Pulling this pin below 1.09V forces the driver output to go low. Pulling this pin below 0.45V forces the LTC4441/LTC4441-1 into (See Datasheet)", 7 FB (in) "DRVCC Regulator Feedback Input. Connect this pin to the center tap of an external resistive divider between DRVCC and SGND to program the DRVCC regulator output voltage. To ensure loop stability, use the value of 330kohm for (See Datasheet)", 8 VIN (power) "Main Supply Input. This pin powers the DRVCC linear regulator. Bypass this pin to SGND with a 1uF ceramic, tantalum or other low ESR capacitor in close proximity to the LTC4441/LTC4441-1.", 9 DRVCC (power) "Linear Regulator Output. This output pin powers the driver and the control circuitry. Bypass this pin to PGND using a 10uF ceramic, low ESR (X5R or X7R) capacitor in close proximity to the LTC4441/LTC4441-1.", 10 OUT (out) "Driver Output.", 11 EP (power) "Ground. The exposed pad must be soldered to the PCB ground."